# Altium footprint library PCB_ActiveLED.PcbLib: 20 footprints (part 2 of 2)
Each footprint in its own frame and in the unit in brackets; x right, y up, seen from the top. Pads: shape width x height; smd on the part's side, far side on the other; paste and mask are expansions set on the pad; w line width, h text height; cw(c..) or ccw(c..) is an arc to the next point about the centre after c.
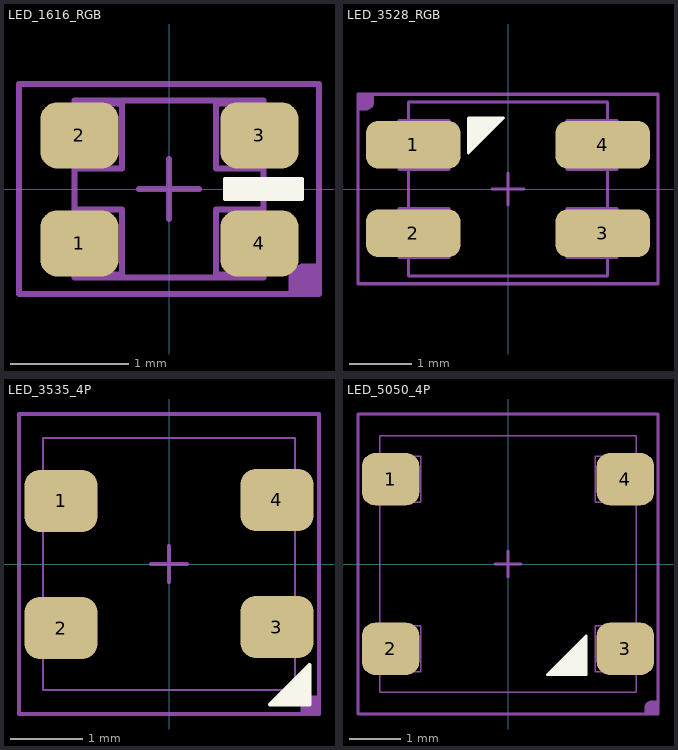
[diagram p1: the footprints below, top view; thin cyan lines are the x and y axes]

## LED_1616_RGB [mil]
height 47.24
pads (4):
  rrect50% 26x22 smd: 1(-30,-18) 2(-30,18) 3(30,18) 4(30,-18)
Top Overlay:
  region: 44.34,3.64 18.34,3.64 18.34,-3.36 44.34,-3.36
  lines w1: 18.34,-3.36 44.34,-3.36 44.34,3.64 18.34,3.64 18.34,-3.36
Mechanical 4:
  text "R" at 20.84,-45.85 h20
  text "+" at 20.84,10.12 h20
  text "G" at -57.08,-45.8 h20
  text "B" at -57.08,10.07 h20
Mechanical 13:
  lines w2: -10.16,0.14 9.84,0.14 ; -0.16,-9.86 -0.16,10.14 ; -31.65,-29.39 -31.65,29.67 31.34,29.67 31.34,-29.39 -31.65,-29.39 ; -31.65,-28.4 -31.65,-6.75 -15.9,-6.75 -15.9,-28.4 -31.65,-28.4 ; -31.65,7.03 -31.65,28.68 -15.9,28.68 -15.9,7.03 -31.65,7.03 ; 15.59,-28.41 31.34,-28.41 31.34,-6.76 15.59,-6.76 15.59,-28.41 ; 15.59,7.02 31.34,7.02 31.34,28.68 15.59,28.68 15.59,7.02
T-Component:
  region: 49.84,-34.86 39.84,-34.86 39.84,-29.86 39.84,-28.87 40.6,-27.03 42.01,-25.62 43.85,-24.86 44.84,-24.86 49.84,-24.86
  lines w2: -50.16,-34.86 49.84,-34.86 49.84,35.14 -50.16,35.14 -50.16,-34.86
  text ".Designator" at -198.97,-17.25 h80
3D body "User Library-HSMF-C114.STEP": height 13.39, standoff -0.39, extent -31.65,-29.39 31.34,29.67

## LED_3528_RGB [mil]
height 47.24
pads (4):
  rrect50% 60x30 smd: 1(-60,28) 2(-60,-28) 3(60,-28) 4(60,28)
Top Overlay:
  region: -25,45 -3,45 -25,23
  lines w2: -25,23 -25,45 -3,45 -25,23
Mechanical 13:
  lines w2: -62.99,-43.43 -62.99,-55.12 62.99,-55.12 62.99,-43.43 ; -62.99,-12.4 -62.99,12.4 ; -62.99,43.43 -62.99,55.12 62.99,55.12 62.99,43.43 ; -10,0 10,0 ; 0,-10 0,10 ; 62.99,-12.4 62.99,12.4 ; -68.9,-43.31 -68.9,-12.4 -37.4,-12.4 -37.4,-43.31 -68.9,-43.31 ; -68.9,12.4 -68.9,43.31 -37.4,43.31 -37.4,12.4 -68.9,12.4 ; 37.4,-43.31 37.4,-12.4 68.9,-12.4 68.9,-43.31 37.4,-43.31 ; 37.4,12.4 37.4,43.31 68.9,43.31 68.9,12.4 37.4,12.4
T-Component:
  region: -95,60 -95,50 -90,50 -89.01,50 -87.17,50.76 -85.76,52.17 -85,54.01 -85,55 -85,60
  lines w2: -95,-60 95,-60 95,60 -95,60 -95,-60
  text ".Designator" at -198.97,-17.25 h80
3D body "User Library-KAA-3528.STEP": height 74.8, standoff 0, extent -68.9,-55.12 68.9,55.11

## LED_3535_4P [mil]
pads (4):
  rrect50% 40x34 smd: 1(-59,34.45) 2(-59,-35) 3(59,-34.45) 4(59,35)
Top Overlay:
  region: 77,-77 55,-77 77,-55
  lines w2: 55,-77 77,-77 77,-55 55,-77
Mechanical 13:
  lines w1: -68.9,-68.9 68.9,-68.9 68.9,68.9 -68.9,68.9 -68.9,-68.9
  lines w2: -10,0 10,0 ; 0,-10 0,10
T-Component:
  region: 82,-82 82,-72 77,-72 76.01,-72 74.17,-72.76 72.76,-74.17 72,-76.01 72,-77 72,-82
  lines w2: -82,-82 82,-82 82,82 -82,82 -82,-82
  text ".Designator" at -198.97,-17.25 h80
3D body "User Library-HP-XI3535.STEP": height 25.59, standoff -0.04, extent -68.9,-68.9 68.9,68.89

## LED_5050_4P [mil]
pads (4):
  rrect50% 44x40 smd: 1(-90,65) 2(-90,-65) 3(90,-65) 4(90,65)
Top Overlay:
  region: 60,-85 30,-85 60,-55
  lines w2: 30,-85 60,-85 60,-55 30,-85
Mechanical 13:
  lines w1: -101.93,-82.45 -101.93,-47.45 -66.93,-47.45 -66.93,-82.45 -101.93,-82.45 ; -101.93,47.46 -66.93,47.46 -66.93,82.46 -101.93,82.46 -101.93,47.46 ; -98.43,-98.43 98.43,-98.43 98.43,98.43 -98.43,98.43 -98.43,-98.43 ; 66.93,-82.45 101.93,-82.45 101.93,-47.45 66.93,-47.45 66.93,-82.45 ; 66.93,47.46 66.93,82.46 101.93,82.46 101.93,47.46 66.93,47.46
  lines w2: -10,0 10,0 ; 0,-10 0,10
T-Component:
  region: 115,-115 115,-105 110,-105 109.01,-105 107.17,-105.76 105.76,-107.17 105,-109.01 105,-110 105,-115
  lines w2: -115,-115 -115,115 115,115 115,-115 -115,-115
  text ".Designator" at -198.97,-17.25 h80
3D body "11821.STEP": height 69.02, standoff 0.13, extent -106.29,-98.42 106.3,98.43